# Altium footprint library 0R2_10.PcbLib: 1 footprints
Each footprint in its own frame and in the unit in brackets; x right, y up, seen from the top. Pads: shape width x height; smd on the part's side, far side on the other; paste and mask are expansions set on the pad; w line width, h text height; cw(c..) or ccw(c..) is an arc to the next point about the centre after c.
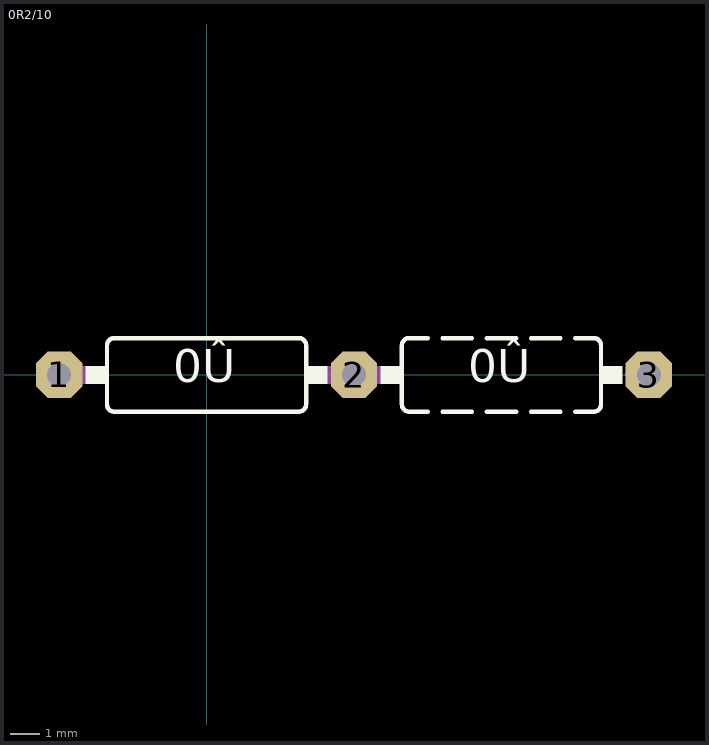
[diagram p0: the footprint, top view; thin cyan lines are the x and y axes]

## 0R2/10 [mil]
pads (3):
  oct 63x63 hole 32: 1(-200,0) 2(200,0) 3(600,0)
Top Overlay:
  rectangle: -164,-12 -135,12
  rectangle: 135,-12 164,12
  rectangle: 236,-12 265,12
  rectangle: 535,-12 564,12
  lines w6: 300,-50 275,-50 cw(c275,-40) 265,-40 265,40 cw(c275,40) 275,50 300,50 ; 320,-50 360,-50 ; 320,50 360,50 ; 380,-50 420,-50 ; 380,50 420,50 ; 440,-50 480,-50 ; 440,50 480,50 ; 500,-50 525,-50 ccw(c525,-40) 535,-40 535,40 ccw(c525,40) 525,50 500,50 ; -135,-40 ccw(c-125,-40) -125,-50 125,-50 ccw(c125,-40) 135,-40 135,40 ccw(c125,40) 125,50 -125,50 ccw(c-125,40) -135,40 -135,-40
  text "0Û" at -45,-25 h77.5
  text "0Û" at 355,-25 h77.5
Mechanical 16:
  lines w6: 570,0 600,0
  lines w24: -200,0 -165,0 ; 165,0 235,0